# Altium footprint library 0474910001.PcbLib: 1 footprints
Each footprint in its own frame and in the unit in brackets; x right, y up, seen from the top. Pads: shape width x height; smd on the part's side, far side on the other; paste and mask are expansions set on the pad; w line width, h text height; cw(c..) or ccw(c..) is an arc to the next point about the centre after c.
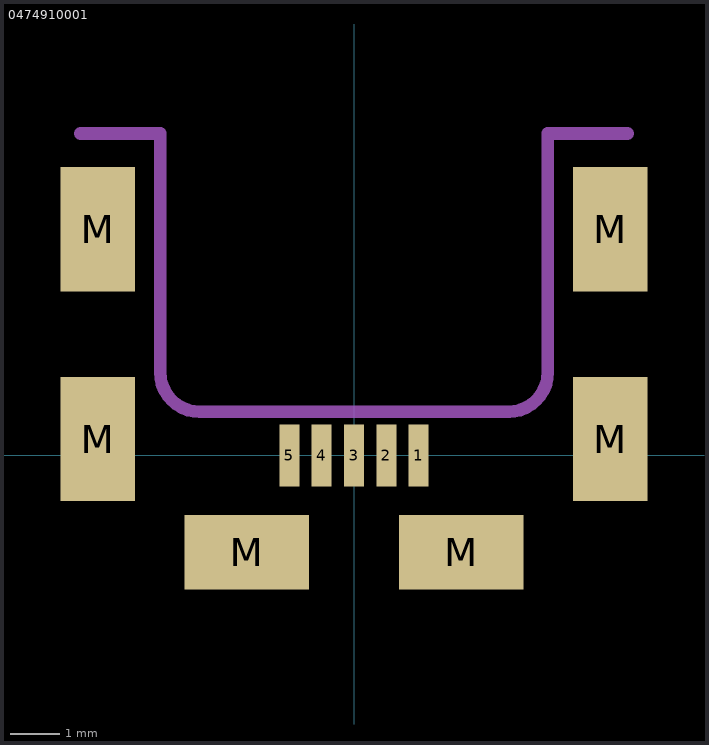
[diagram p0: the footprint, top view; thin cyan lines are the x and y axes]

## 0474910001 [mm] "uUSB mid mount"
pads (11):
  rect 0.4x1.25 smd paste-0.075: 1(1.3,0) 2(0.65,0) 3(0,0) 4(-0.65,0) 5(-1.3,0)
  rect 1.5x2.5 smd paste-0.2: M(-5.15,0.33) M(-5.15,4.55) M(5.15,0.33) M(5.15,4.55)
  rect 2.5x1.5 smd paste-0.2: M(-2.155,-1.95) M(2.155,-1.95)
Mechanical 8:
  lines w0.254: -5.5,6.475 -3.9,6.475 -3.9,1.675 ccw(c-3.1,1.675) -3.1,0.875 3.125,0.875 ; 3.1,0.875 ccw(c3.1,1.675) 3.9,1.675 ; 3.9,1.65 3.9,6.475 5.5,6.475
3D body "474910001.stp": height 1.48, standoff -1.47, extent -5.5,-2.25 5.5,6.88